# Altium footprint library DF40.PcbLib: 6 footprints
Each footprint in its own frame and in the unit in brackets; x right, y up, seen from the top. Pads: shape width x height; smd on the part's side, far side on the other; paste and mask are expansions set on the pad; w line width, h text height; cw(c..) or ccw(c..) is an arc to the next point about the centre after c.
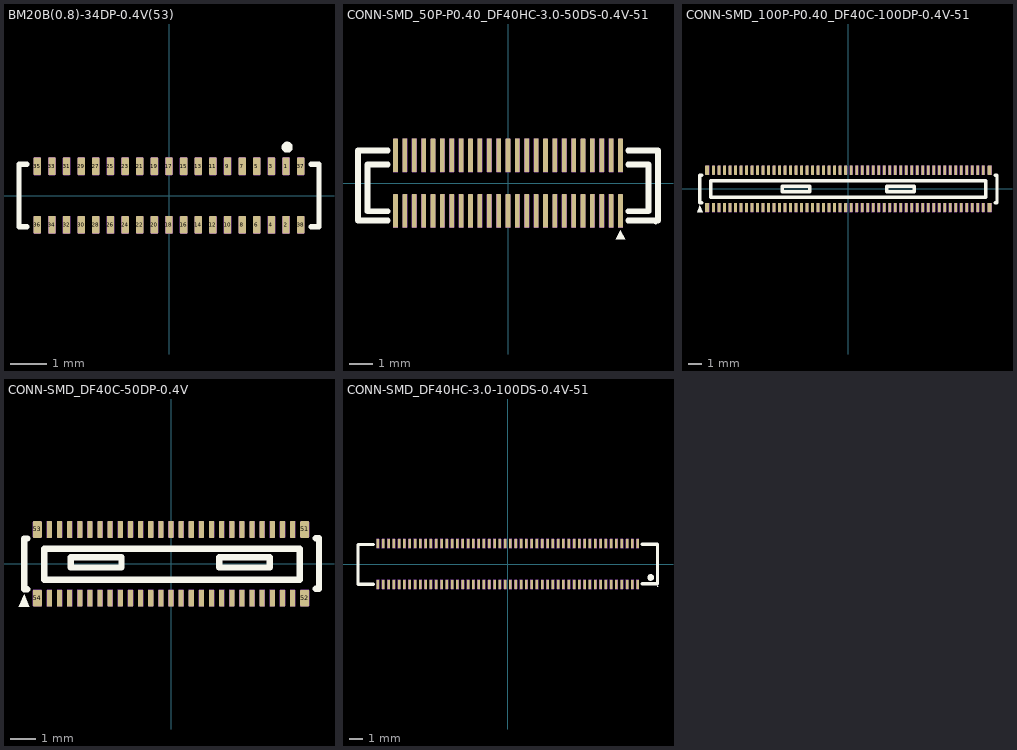
[diagram p0: the footprints below, top view; thin cyan lines are the x and y axes]

## BM20B(0.8)-34DP-0.4V(53) [mm] "BM20B(0.8)-34DP-0.4V(53) CONN-SMD_34P-P0.40_BM20B-0.8-34DP-0.4V-51"
height -909.212
pads (38):
  rrect25% 0.2x0.48 smd mask+0.05: 1(3.2,0.8) 2(3.2,-0.8) 3(2.8,0.8) 4(2.8,-0.8) 5(2.4,0.8) 6(2.4,-0.8) 7(2,0.8) 8(2,-0.8) 9(1.6,0.8) 10(1.6,-0.8) 11(1.2,0.8) 12(1.2,-0.8) 13(0.8,0.8) 14(0.8,-0.8) 15(0.4,0.8) 16(0.4,-0.8) 17(0,0.8) 18(0,-0.8) 19(-0.4,0.8) 20(-0.4,-0.8) 21(-0.8,0.8) 22(-0.8,-0.8) 23(-1.2,0.8) 24(-1.2,-0.8) 25(-1.6,0.8) 26(-1.6,-0.8) 27(-2,0.8) 28(-2,-0.8) 29(-2.4,0.8) 30(-2.4,-0.8) 31(-2.8,0.8) 32(-2.8,-0.8) 33(-3.2,0.8) 34(-3.2,-0.8) 35(-3.6,0.8) 36(-3.6,-0.8) 37(3.6,0.8) 38(3.6,-0.8)
Top Overlay:
  circle w0.15: c3.23,1.32 r0.076
  lines w0.15: -3.894,-0.86 -4.1,-0.86 -4.1,0.86 -3.894,0.86 ; 3.894,-0.86 4.1,-0.86 4.1,0.86 3.894,0.86
Mechanical 9:
  drawing of 38 lines, arcs and shapes, not listed
3D body "CONN-SMD_34P-P0.40_BM20B-0.8-34DP-0.4V-51.step": height 1, standoff 0, extent -4.1,-0.9 4.1,1.396

## CONN-SMD_50P-P0.40_DF40HC-3.0-50DS-0.4V-51 [mm] "SMD-50P; SMD,P=0.4mm"
height -909.212
pads (50):
  rrect25% 0.2x1.43 smd mask+0.05: 1(4.8,-1.185) 2(4.8,1.185) 3(4.4,-1.185) 4(4.4,1.185) 5(4,-1.185) 6(4,1.185) 7(3.6,-1.185) 8(3.6,1.185) 9(3.2,-1.185) 10(3.2,1.185) 11(2.8,-1.185) 12(2.8,1.185) 13(2.4,-1.185) 14(2.4,1.185) 15(2,-1.185) 16(2,1.185) 17(1.6,-1.185) 18(1.6,1.185) 19(1.2,-1.185) 20(1.2,1.185) 21(0.8,-1.185) 22(0.8,1.185) 23(0.4,-1.185) 24(0.4,1.185) 25(0,-1.185) 26(0,1.185) 27(-0.4,-1.185) 28(-0.4,1.185) 29(-0.8,-1.185) 30(-0.8,1.185) 31(-1.2,-1.185) 32(-1.2,1.185) 33(-1.6,-1.185) 34(-1.6,1.185) 35(-2,-1.185) 36(-2,1.185) 37(-2.4,-1.185) 38(-2.4,1.185) 39(-2.8,-1.185) 40(-2.8,1.185) 41(-3.2,-1.185) 42(-3.2,1.185) 43(-3.6,-1.185) 44(-3.6,1.185) 45(-4,-1.185) 46(-4,1.185) 47(-4.4,-1.185) 48(-4.4,1.185) 49(-4.8,-1.185) 50(-4.8,1.185)
Top Overlay:
  region: 4.6,-2.4 5,-2.4 4.8,-2
  region: 6.36,-1.69 6.359,-1.678 6.355,-1.667 6.35,-1.657 6.342,-1.648 6.333,-1.64 6.323,-1.635 6.312,-1.631 6.3,-1.63 6.288,-1.631 6.277,-1.635 6.267,-1.64 6.258,-1.648 6.25,-1.657 6.245,-1.667 6.241,-1.678 6.24,-1.69 6.241,-1.702 6.245,-1.713 6.25,-1.723 6.258,-1.732 6.267,-1.74 6.277,-1.745 6.288,-1.749 6.3,-1.75 6.312,-1.749 6.323,-1.745 6.333,-1.74 6.342,-1.732 6.35,-1.723 6.355,-1.713 6.359,-1.702
  lines w0.254: -5.131,-1.6 -6.4,-1.6 -6.4,1.4 -5.131,1.4 ; -5.131,-1.2 -6,-1.2 -6,0.8 -5.2,0.8 -5.131,0.8 ; 5.131,-1.6 6.4,-1.6 6.4,1.4 5.131,1.4 ; 5.131,-1.2 6,-1.2 6,0.8 5.131,0.8
Mechanical 9:
  drawing of 50 lines, arcs and shapes, not listed
3D body "CONN-SMD_50P-P0.40_DF40HC-3.0-50DS-0.4V-51.step": height 1, standoff 0, extent -6.3,-1.47 6.3,1.47

## CONN-SMD_100P-P0.40_DF40C-100DP-0.4V-51 [mm] "SMD,P=0.4mm"
height -909.212
pads (104):
  rrect25% 0.2x0.66 smd mask+0.05: 1(-9.8,-1.355) 2(-9.4,-1.355) 3(-9,-1.355) 4(-8.6,-1.355) 5(-8.2,-1.355) 6(-7.8,-1.355) 7(-7.4,-1.355) 8(-7,-1.355) 9(-6.6,-1.355) 10(-6.2,-1.355) 11(-5.8,-1.355) 12(-5.4,-1.355) 13(-5,-1.355) 14(-4.6,-1.355) 15(-4.2,-1.355) 16(-3.8,-1.355) 17(-3.4,-1.355) 18(-3,-1.355) 19(-2.6,-1.355) 20(-2.2,-1.355) 21(-1.8,-1.355) 22(-1.4,-1.355) 23(-1,-1.355) 24(-0.6,-1.355) 25(-0.2,-1.355) 26(0.2,-1.355) 27(0.6,-1.355) 28(1,-1.355) 29(1.4,-1.355) 30(1.8,-1.355) 31(2.2,-1.355) 32(2.6,-1.355) 33(3,-1.355) 34(3.4,-1.355) 35(3.8,-1.355) 36(4.2,-1.355) 37(4.6,-1.355) 38(5,-1.355) 39(5.4,-1.355) 40(5.8,-1.355) 41(6.2,-1.355) 42(6.6,-1.355) 43(7,-1.355) 44(7.4,-1.355) 45(7.8,-1.355) 46(8.2,-1.355) 47(8.6,-1.355) 48(9,-1.355) 49(9.4,-1.355) 50(9.8,-1.355) 51(9.8,1.355) 52(9.4,1.355) 53(9,1.355) 54(8.6,1.355) 55(8.2,1.355) 56(7.8,1.355) 57(7.4,1.355) 58(7,1.355) 59(6.6,1.355) 60(6.2,1.355) 61(5.8,1.355) 62(5.4,1.355) 63(5,1.355) 64(4.6,1.355) 65(4.2,1.355) 66(3.8,1.355) 67(3.4,1.355) 68(3,1.355) 69(2.6,1.355) 70(2.2,1.355) 71(1.8,1.355) 72(1.4,1.355) 73(1,1.355) 74(0.6,1.355) 75(0.2,1.355) 76(-0.2,1.355) 77(-0.6,1.355) 78(-1,1.355) 79(-1.4,1.355) 80(-1.8,1.355) 81(-2.2,1.355) 82(-2.6,1.355) 83(-3,1.355) 84(-3.4,1.355) 85(-3.8,1.355) 86(-4.2,1.355) 87(-4.6,1.355) 88(-5,1.355) 89(-5.4,1.355) 90(-5.8,1.355) 91(-6.2,1.355) 92(-6.6,1.355) 93(-7,1.355) 94(-7.4,1.355) 95(-7.8,1.355) 96(-8.2,1.355) 97(-8.6,1.355) 98(-9,1.355) 99(-9.4,1.355) 100(-9.8,1.355)
  rrect25% 0.3x0.66 smd mask+0.05: 101(10.265,-1.355) 102(10.265,1.355) 103(-10.265,-1.355) 104(-10.265,1.355)
Top Overlay:
  region: -10.69,-1.485 -10.691,-1.473 -10.695,-1.462 -10.7,-1.452 -10.708,-1.443 -10.717,-1.435 -10.727,-1.43 -10.738,-1.426 -10.75,-1.425 -10.762,-1.426 -10.773,-1.43 -10.783,-1.435 -10.792,-1.443 -10.8,-1.452 -10.805,-1.462 -10.809,-1.473 -10.81,-1.485 -10.809,-1.497 -10.805,-1.508 -10.8,-1.518 -10.792,-1.527 -10.783,-1.535 -10.773,-1.54 -10.762,-1.544 -10.75,-1.545 -10.738,-1.544 -10.727,-1.54 -10.717,-1.535 -10.708,-1.527 -10.7,-1.518 -10.695,-1.508 -10.691,-1.497
  region: -11,-1.7 -10.6,-1.7 -10.8,-1.2
  lines w0.254: -10.67,-1 -10.8,-1 -10.8,1 -10.67,1 ; 10.67,-1 10.8,-1 10.8,1 10.67,1 ; -10,-0.6 10,-0.6 10,0.6 -10,0.6 -10,-0.6 ; -4.8,-0.2 -2.8,-0.2 -2.8,0.2 -4.8,0.2 -4.8,-0.2 ; 2.8,-0.2 4.8,-0.2 4.8,0.2 2.8,0.2 2.8,-0.2
Mechanical 9:
  drawing of 104 lines, arcs and shapes, not listed
3D body "CONN-SMD_DF40C-WS-100P-P0.4.step": height 1, standoff 0, extent -10.75,-0.925 10.75,0.925

## CONN-SMD_DF40C-50DP-0.4V [mm] "SMD,P=0.4mm"
height -909.212
pads (54):
  rrect25% 0.2x0.66 smd mask+0.05: 1(-4.8,-1.355) 2(-4.8,1.355) 3(-4.4,-1.355) 4(-4.4,1.355) 5(-4,-1.355) 6(-4,1.355) 7(-3.6,-1.355) 8(-3.6,1.355) 9(-3.2,-1.355) 10(-3.2,1.355) 11(-2.8,-1.355) 12(-2.8,1.355) 13(-2.4,-1.355) 14(-2.4,1.355) 15(-2,-1.355) 16(-2,1.355) 17(-1.6,-1.355) 18(-1.6,1.355) 19(-1.2,-1.355) 20(-1.2,1.355) 21(-0.8,-1.355) 22(-0.8,1.355) 23(-0.4,-1.355) 24(-0.4,1.355) 25(0,-1.355) 26(0,1.355) 27(0.4,-1.355) 28(0.4,1.355) 29(0.8,-1.355) 30(0.8,1.355) 31(1.2,-1.355) 32(1.2,1.355) 33(1.6,-1.355) 34(1.6,1.355) 35(2,-1.355) 36(2,1.355) 37(2.4,-1.355) 38(2.4,1.355) 39(2.8,-1.355) 40(2.8,1.355) 41(3.2,-1.355) 42(3.2,1.355) 43(3.6,-1.355) 44(3.6,1.355) 45(4,-1.355) 46(4,1.355) 47(4.4,-1.355) 48(4.4,1.355) 49(4.8,-1.355) 50(4.8,1.355)
  rrect25% 0.35x0.66 smd mask+0.05: 51(5.275,1.355) 52(5.275,-1.355) 53(-5.275,1.355) 54(-5.275,-1.355)
Top Overlay:
  region: -6,-1.7 -5.6,-1.7 -5.8,-1.2
  region: -5.7,-1.485 -5.701,-1.473 -5.705,-1.462 -5.71,-1.452 -5.718,-1.443 -5.727,-1.435 -5.737,-1.43 -5.748,-1.426 -5.76,-1.425 -5.772,-1.426 -5.783,-1.43 -5.793,-1.435 -5.802,-1.443 -5.81,-1.452 -5.815,-1.462 -5.819,-1.473 -5.82,-1.485 -5.819,-1.497 -5.815,-1.508 -5.81,-1.518 -5.802,-1.527 -5.793,-1.535 -5.783,-1.54 -5.772,-1.544 -5.76,-1.545 -5.748,-1.544 -5.737,-1.54 -5.727,-1.535 -5.718,-1.527 -5.71,-1.518 -5.705,-1.508 -5.701,-1.497
  lines w0.254: -5.67,-1 -5.8,-1 -5.8,1 -5.67,1 ; 5.712,-0.984 5.842,-0.984 5.842,1.016 5.712,1.016 ; -5,-0.635 -5,0.6 5.08,0.6 5.08,-0.635 -5,-0.635 ; -3.953,-0.146 -3.953,0.254 -1.953,0.254 -1.953,-0.146 -3.953,-0.146 ; 1.905,-0.146 1.905,0.254 3.905,0.254 3.905,-0.146 1.905,-0.146
Mechanical 9:
  drawing of 54 lines, arcs and shapes, not listed
3D body "CONN-SMD_DF40C-50DP-0.4V.step": height 1, standoff 0, extent -5.76,-0.925 5.76,0.925

## CONN-SMD_DF40HC-3.0-100DS-0.4V-51 [mm] "SMD,P=0.4mm; RasPi-CM4; CONN-SMD; CONN-SMD-2*50P"
height -909.212
pads (100):
  rrect25% 0.19x0.7 smd mask+0.05: 1(9.8,-1.54) 2(9.4,-1.54) 3(9,-1.54) 4(8.6,-1.54) 5(8.2,-1.54) 6(7.8,-1.54) 7(7.4,-1.54) 8(7,-1.54) 9(6.6,-1.54) 10(6.2,-1.54) 11(5.8,-1.54) 12(5.4,-1.54) 13(5,-1.54) 14(4.6,-1.54) 15(4.2,-1.54) 16(3.8,-1.54) 17(3.4,-1.54) 18(3,-1.54) 19(2.6,-1.54) 20(2.2,-1.54) 21(1.8,-1.54) 22(1.4,-1.54) 23(1,-1.54) 24(0.6,-1.54) 25(0.2,-1.54) 26(-0.2,-1.54) 27(-0.6,-1.54) 28(-1,-1.54) 29(-1.4,-1.54) 30(-1.8,-1.54) 31(-2.2,-1.54) 32(-2.6,-1.54) 33(-3,-1.54) 34(-3.4,-1.54) 35(-3.8,-1.54) 36(-4.2,-1.54) 37(-4.6,-1.54) 38(-5,-1.54) 39(-5.4,-1.54) 40(-5.8,-1.54) 41(-6.2,-1.54) 42(-6.6,-1.54) 43(-7,-1.54) 44(-7.4,-1.54) 45(-7.8,-1.54) 46(-8.2,-1.54) 47(-8.6,-1.54) 48(-9,-1.54) 49(-9.4,-1.54) 50(-9.8,-1.54) 51(-9.8,1.54) 52(-9.4,1.54) 53(-9,1.54) 54(-8.6,1.54) 55(-8.2,1.54) 56(-7.8,1.54) 57(-7.4,1.54) 58(-7,1.54) 59(-6.6,1.54) 60(-6.2,1.54) 61(-5.8,1.54) 62(-5.4,1.54) 63(-5,1.54) 64(-4.6,1.54) 65(-4.2,1.54) 66(-3.8,1.54) 67(-3.4,1.54) 68(-3,1.54) 69(-2.6,1.54) 70(-2.2,1.54) 71(-1.8,1.54) 72(-1.4,1.54) 73(-1,1.54) 74(-0.6,1.54) 75(-0.2,1.54) 76(0.2,1.54) 77(0.6,1.54) 78(1,1.54) 79(1.4,1.54) 80(1.8,1.54) 81(2.2,1.54) 82(2.6,1.54) 83(3,1.54) 84(3.4,1.54) 85(3.8,1.54) 86(4.2,1.54) 87(4.6,1.54) 88(5,1.54) 89(5.4,1.54) 90(5.8,1.54) 91(6.2,1.54) 92(6.6,1.54) 93(7,1.54) 94(7.4,1.54) 95(7.8,1.54) 96(8.2,1.54) 97(8.6,1.54) 98(9,1.54) 99(9.4,1.54) 100(9.8,1.54)
Top Overlay:
  circle w0.254: c10.779,-1.016 r0.127
  region: 11.333,-1.69 11.332,-1.684 11.331,-1.678 11.328,-1.673 11.324,-1.669 11.32,-1.665 11.314,-1.662 11.309,-1.66 11.303,-1.66 11.297,-1.66 11.292,-1.662 11.286,-1.665 11.282,-1.669 11.278,-1.673 11.275,-1.678 11.274,-1.684 11.273,-1.69 11.274,-1.696 11.275,-1.701 11.278,-1.707 11.282,-1.711 11.286,-1.715 11.292,-1.718 11.297,-1.719 11.303,-1.72 11.309,-1.719 11.314,-1.718 11.32,-1.715 11.324,-1.711 11.328,-1.707 11.331,-1.701 11.332,-1.696
  lines w0.254: -10.134,-1.524 -11.303,-1.524 -11.303,1.476 -10.134,1.476 ; 10.131,-1.5 11.3,-1.5 11.3,1.5 10.131,1.5
Mechanical 9:
  drawing of 100 lines, arcs and shapes, not listed
3D body "CONN-SMD_DF40HC-3.0-100DS-0.4V-51.step": height 1, standoff 0, extent -11.303,-1.47 11.303,1.47

## PCBComponent_1 [mm]